# EAGLE library part INA828IDR (library shepherd)
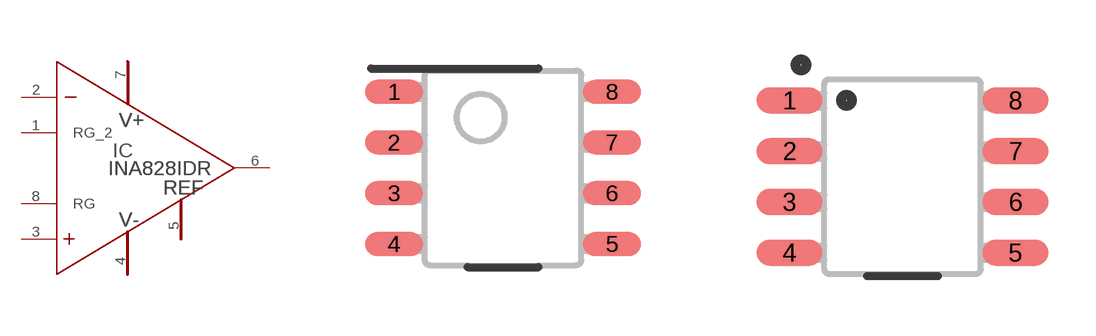
[diagram p7: symbol with the pads of D0008A_N; footprints D0008A_N, D0008A_M]

Designator prefix IC

## INA828IDR  [D0008A_N]
1  RG_2  pas
2  IN-  in
3  IN+  in
4  V-  pwr
5  REF  in
6  OUT  out
7  V+  pwr
8  RG  pas

## INA828IDRD0008A_M  [D0008A_M]
Pads as for D0008A_N

## INA828IDRD0008A_L  [D0008A_L]
Pads as for D0008A_N

## Footprint D0008A_N (pad centres in mm)
smd 1.45 x 0.6: 1 -2.725,1.905; 2 -2.725,0.635; 3 -2.725,-0.635; 4 -2.725,-1.905; 5 2.725,-1.905; 6 2.725,-0.635; 7 2.725,0.635; 8 2.725,1.905

## Footprint D0008A_M (pad centres in mm)
smd 1.65 x 0.65: 1 -2.825,1.905; 2 -2.825,0.635; 3 -2.825,-0.635; 4 -2.825,-1.905; 5 2.825,-1.905; 6 2.825,-0.635; 7 2.825,0.635; 8 2.825,1.905

## Footprint D0008A_L (pad centres in mm)
smd 1.25 x 0.55: 1 -2.625,1.905; 2 -2.625,0.635; 3 -2.625,-0.635; 4 -2.625,-1.905; 5 2.625,-1.905; 6 2.625,-0.635; 7 2.625,0.635; 8 2.625,1.905